# Altium schematic symbol library U_S8232.Schlib: 1 symbol
Pins are listed as number, name and electrical type; pins without a type are passive.

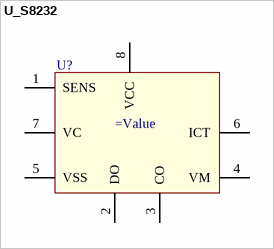
[diagram p0: symbol U_S8232]

## U_S8232
designator U?
pins: 1 SENS, 2 DO, 3 CO, 4 VM, 5 VSS, 6 ICT, 7 VC, 8 VCC